# Altium footprint library 1206.PcbLib: 3 footprints
Each footprint in its own frame and in the unit in brackets; x right, y up, seen from the top. Pads: shape width x height; smd on the part's side, far side on the other; paste and mask are expansions set on the pad; w line width, h text height; cw(c..) or ccw(c..) is an arc to the next point about the centre after c.
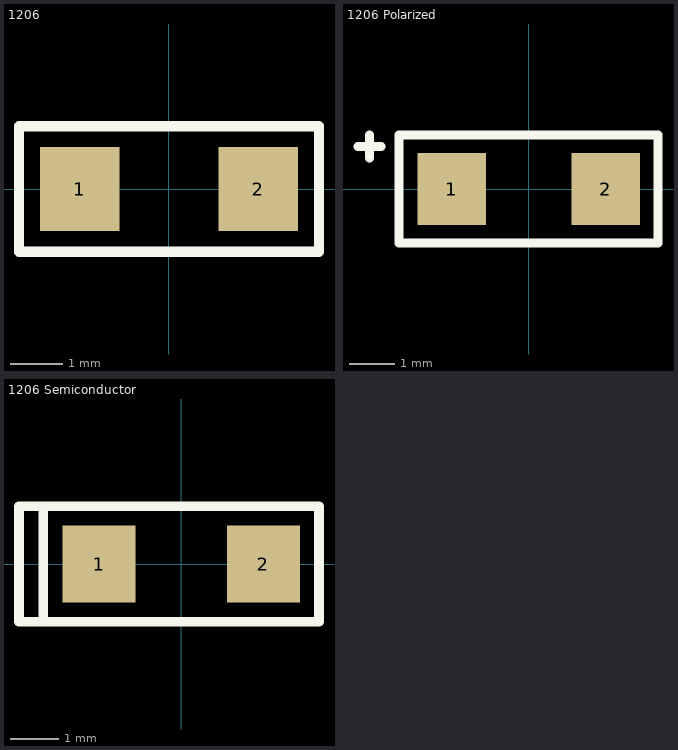
[diagram p0: the footprints below, top view; thin cyan lines are the x and y axes]

## 1206 [mm]
pads (2):
  rect 1.52x1.6 smd: 1(-1.71,0) 2(1.71,0)
Top Overlay:
  lines w0.2: -2.87,-1.2 -2.87,1.2 2.87,1.2 2.87,-1.2 -2.87,-1.2
3D body: height 0.55, standoff 0, extent -1.6,-0.8 -1.1,0.8
3D body: height 0.55, standoff 0, extent -1.1,-0.8 1.1,0.8
3D body: height 0.55, standoff 0, extent 1.1,-0.8 1.6,0.8

## 1206 Polarized [mm]
pads (2):
  rect 1.52x1.6 smd: 1(-1.71,0) 2(1.71,0)
Top Overlay:
  lines w0.2: -3.785,0.94 -3.277,0.94 ; -3.531,0.686 -3.531,1.194 ; -2.87,1.194 -2.87,-1.2 2.87,-1.2 2.87,1.2 -2.87,1.2
3D body: height 0.55, standoff 0, extent 1.1,-0.8 1.6,0.8
3D body: height 0.55, standoff 0, extent -1.1,-0.8 1.1,0.8
3D body: height 0.55, standoff 0, extent -1.6,-0.8 -1.1,0.8

## 1206 Semiconductor [mm]
pads (2):
  rect 1.52x1.6 smd: 1(-1.71,0) 2(1.71,0)
Top Overlay:
  lines w0.2: -3.378,-1.2 2.87,-1.2 2.87,1.2 -3.378,1.2 -3.378,-1.194 ; -2.87,-1.194 -2.87,1.2
3D body: height 0.55, standoff 0, extent 1.1,-0.8 1.6,0.8
3D body: height 0.55, standoff 0, extent -1.1,-0.8 1.1,0.8
3D body: height 0.55, standoff 0, extent -1.6,-0.8 -1.1,0.8